# EAGLE library part XCV100_CB228 (library xilinx-xcv)
xcv100_cb228_1532 edit this description Auto generated by make-symbol-device-package-bsdl.ulp Rev. 26 Source: xcv100_cb228_1532.bsd
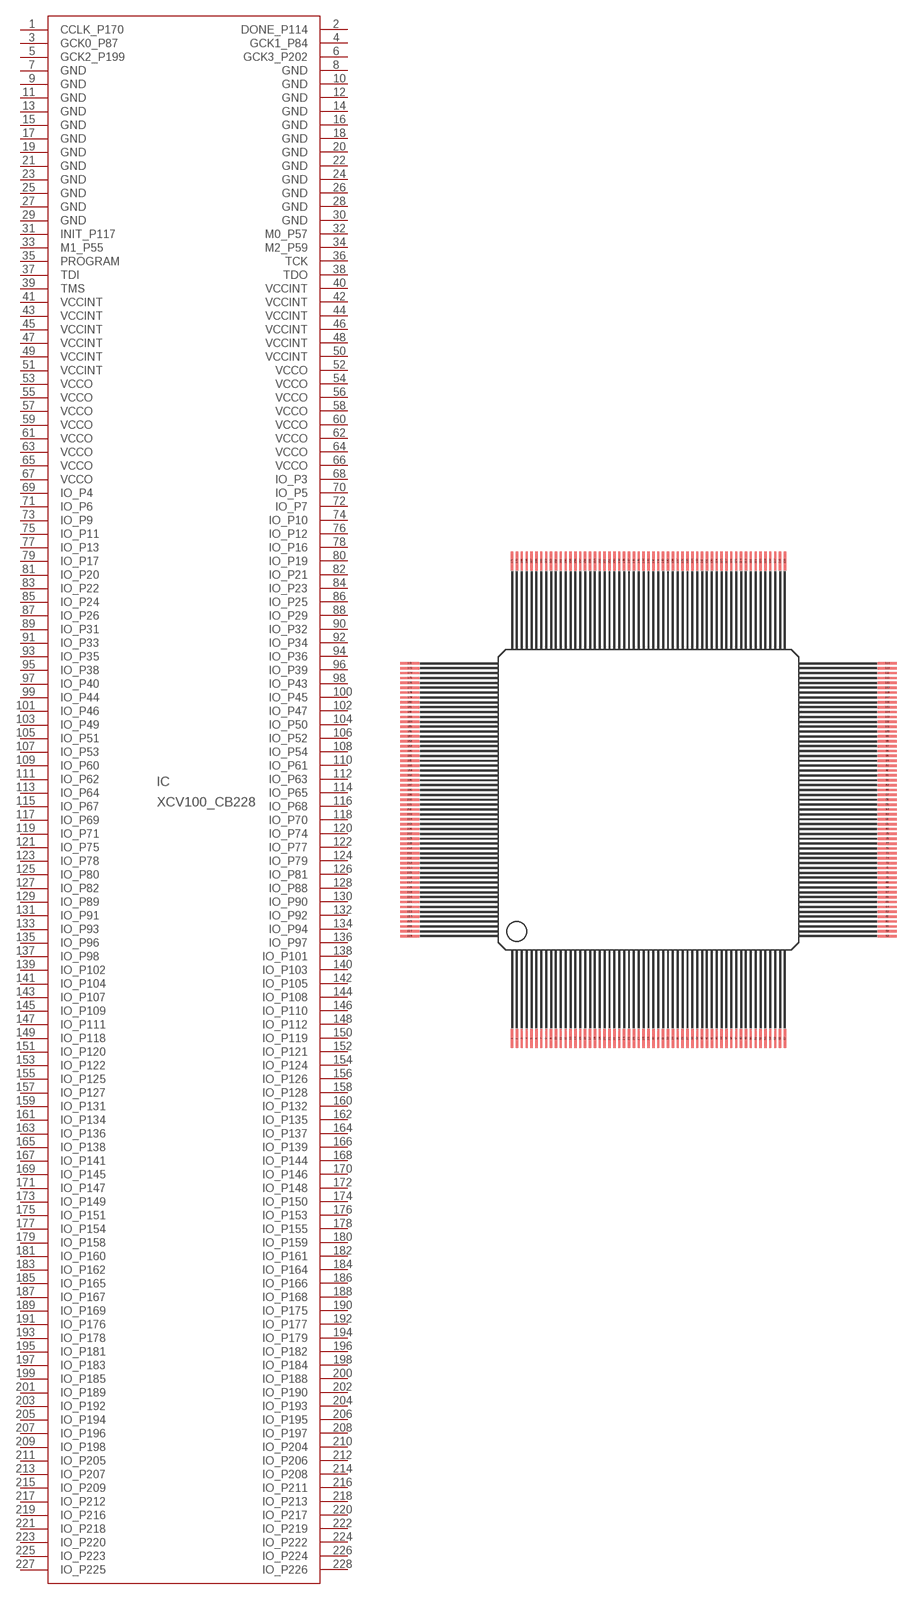
[diagram p1: symbol with the pads of CB228; footprint CB228]

Designator prefix IC

## XCV100_CB228 (OC_FARNELL: unknown; OC_NEWARK: unknown)  [CB228]
1  CCLK_P170
2  DONE_P114
3  GCK0_P87  in
4  GCK1_P84  in
5  GCK2_P199  in
6  GCK3_P202  in
7  GND  pwr
8  GND  pwr
9  GND  pwr
10  GND  pwr
11  GND  pwr
12  GND  pwr
13  GND  pwr
14  GND  pwr
15  GND  pwr
16  GND  pwr
17  GND  pwr
18  GND  pwr
19  GND  pwr
20  GND  pwr
21  GND  pwr
22  GND  pwr
23  GND  pwr
24  GND  pwr
25  GND  pwr
26  GND  pwr
27  GND  pwr
28  GND  pwr
29  GND  pwr
30  GND  pwr
31  INIT_P117
32  M0_P57  in
33  M1_P55  in
34  M2_P59  in
35  PROGRAM  in
36  TCK  in
37  TDI  in
38  TDO  out
39  TMS  in
40  VCCINT  pwr
41  VCCINT  pwr
42  VCCINT  pwr
43  VCCINT  pwr
44  VCCINT  pwr
45  VCCINT  pwr
46  VCCINT  pwr
47  VCCINT  pwr
48  VCCINT  pwr
49  VCCINT  pwr
50  VCCINT  pwr
51  VCCINT  pwr
52  VCCO  pwr
53  VCCO  pwr
54  VCCO  pwr
55  VCCO  pwr
56  VCCO  pwr
57  VCCO  pwr
58  VCCO  pwr
59  VCCO  pwr
60  VCCO  pwr
61  VCCO  pwr
62  VCCO  pwr
63  VCCO  pwr
64  VCCO  pwr
65  VCCO  pwr
66  VCCO  pwr
67  VCCO  pwr
68  IO_P3
69  IO_P4
70  IO_P5
71  IO_P6
72  IO_P7
73  IO_P9
74  IO_P10
75  IO_P11
76  IO_P12
77  IO_P13
78  IO_P16
79  IO_P17
80  IO_P19
81  IO_P20
82  IO_P21
83  IO_P22
84  IO_P23
85  IO_P24
86  IO_P25
87  IO_P26
88  IO_P29
89  IO_P31
90  IO_P32
91  IO_P33
92  IO_P34
93  IO_P35
94  IO_P36
95  IO_P38
96  IO_P39
97  IO_P40
98  IO_P43
99  IO_P44
100  IO_P45
101  IO_P46
102  IO_P47
103  IO_P49
104  IO_P50
105  IO_P51
106  IO_P52
107  IO_P53
108  IO_P54
109  IO_P60
110  IO_P61
111  IO_P62
112  IO_P63
113  IO_P64
114  IO_P65
115  IO_P67
116  IO_P68
117  IO_P69
118  IO_P70
119  IO_P71
120  IO_P74
121  IO_P75
122  IO_P77
123  IO_P78
124  IO_P79
125  IO_P80
126  IO_P81
127  IO_P82
128  IO_P88
129  IO_P89
130  IO_P90
131  IO_P91
132  IO_P92
133  IO_P93
134  IO_P94
135  IO_P96
136  IO_P97
137  IO_P98
138  IO_P101
139  IO_P102
140  IO_P103
141  IO_P104
142  IO_P105
143  IO_P107
144  IO_P108
145  IO_P109
146  IO_P110
147  IO_P111
148  IO_P112
149  IO_P118
150  IO_P119
151  IO_P120
152  IO_P121
153  IO_P122
154  IO_P124
155  IO_P125
156  IO_P126
157  IO_P127
158  IO_P128
159  IO_P131
160  IO_P132
161  IO_P134
162  IO_P135
163  IO_P136
164  IO_P137
165  IO_P138
166  IO_P139
167  IO_P141
168  IO_P144
169  IO_P145
170  IO_P146
171  IO_P147
172  IO_P148
173  IO_P149
174  IO_P150
175  IO_P151
176  IO_P153
177  IO_P154
178  IO_P155
179  IO_P158
180  IO_P159
181  IO_P160
182  IO_P161
183  IO_P162
184  IO_P164
185  IO_P165
186  IO_P166
187  IO_P167
188  IO_P168
189  IO_P169
190  IO_P175
191  IO_P176
192  IO_P177
193  IO_P178
194  IO_P179
195  IO_P181
196  IO_P182
197  IO_P183
198  IO_P184
199  IO_P185
200  IO_P188
201  IO_P189
202  IO_P190
203  IO_P192
204  IO_P193
205  IO_P194
206  IO_P195
207  IO_P196
208  IO_P197
209  IO_P198
210  IO_P204
211  IO_P205
212  IO_P206
213  IO_P207
214  IO_P208
215  IO_P209
216  IO_P211
217  IO_P212
218  IO_P213
219  IO_P216
220  IO_P217
221  IO_P218
222  IO_P219
223  IO_P220
224  IO_P222
225  IO_P223
226  IO_P224
227  IO_P225
228  IO_P226

## Footprint CB228 (pad centres in mm)
Ceramic Brazed CQFP (CB228) Package Source: cb228.pdf
smd 0.305 x 2.54: 1 -17.78,-31.115; 2 -17.145,-31.115; 3 -16.51,-31.115; 4 -15.875,-31.115; 5 -15.24,-31.115; 6 -14.605,-31.115; 7 -13.97,-31.115; 8 -13.335,-31.115; 9 -12.7,-31.115; 10 -12.065,-31.115; 11 -11.43,-31.115; 12 -10.795,-31.115; 13 -10.16,-31.115; 14 -9.525,-31.115; 15 -8.89,-31.115; 16 -8.255,-31.115; 17 -7.62,-31.115; 18 -6.985,-31.115; 19 -6.35,-31.115; 20 -5.715,-31.115; 21 -5.08,-31.115; 22 -4.445,-31.115; 23 -3.81,-31.115; 24 -3.175,-31.115; 25 -2.54,-31.115; 26 -1.905,-31.115; 27 -1.27,-31.115; 28 -0.635,-31.115; 29 0,-31.115; 30 0.635,-31.115; 31 1.27,-31.115; 32 1.905,-31.115; 33 2.54,-31.115; 34 3.175,-31.115; 35 3.81,-31.115; 36 4.445,-31.115; 37 5.08,-31.115; 38 5.715,-31.115; 39 6.35,-31.115; 40 6.985,-31.115; 41 7.62,-31.115; 42 8.255,-31.115; 43 8.89,-31.115; 44 9.525,-31.115; 45 10.16,-31.115; 46 10.795,-31.115; 47 11.43,-31.115; 48 12.065,-31.115; 49 12.7,-31.115; 50 13.335,-31.115; 51 13.97,-31.115; 52 14.605,-31.115; 53 15.24,-31.115; 54 15.875,-31.115; 55 16.51,-31.115; 56 17.145,-31.115; 57 17.78,-31.115; 115 17.78,31.115; 116 17.145,31.115; 117 16.51,31.115; 118 15.875,31.115; 119 15.24,31.115; 120 14.605,31.115; 121 13.97,31.115; 122 13.335,31.115; 123 12.7,31.115; 124 12.065,31.115; 125 11.43,31.115; 126 10.795,31.115; 127 10.16,31.115; 128 9.525,31.115; 129 8.89,31.115; 130 8.255,31.115; 131 7.62,31.115; 132 6.985,31.115; 133 6.35,31.115; 134 5.715,31.115; 135 5.08,31.115; 136 4.445,31.115; 137 3.81,31.115; 138 3.175,31.115; 139 2.54,31.115; 140 1.905,31.115; 141 1.27,31.115; 142 0.635,31.115; 143 0,31.115; 144 -0.635,31.115; 145 -1.27,31.115; 146 -1.905,31.115; 147 -2.54,31.115; 148 -3.175,31.115; 149 -3.81,31.115; 150 -4.445,31.115; 151 -5.08,31.115; 152 -5.715,31.115; 153 -6.35,31.115; 154 -6.985,31.115; 155 -7.62,31.115; 156 -8.255,31.115; 157 -8.89,31.115; 158 -9.525,31.115; 159 -10.16,31.115; 160 -10.795,31.115; 161 -11.43,31.115; 162 -12.065,31.115; 163 -12.7,31.115; 164 -13.335,31.115; 165 -13.97,31.115; 166 -14.605,31.115; 167 -15.24,31.115; 168 -15.875,31.115; 169 -16.51,31.115; 170 -17.145,31.115; 171 -17.78,31.115
smd 2.54 x 0.305: 58 31.115,-17.78; 59 31.115,-17.145; 60 31.115,-16.51; 61 31.115,-15.875; 62 31.115,-15.24; 63 31.115,-14.605; 64 31.115,-13.97; 65 31.115,-13.335; 66 31.115,-12.7; 67 31.115,-12.065; 68 31.115,-11.43; 69 31.115,-10.795; 70 31.115,-10.16; 71 31.115,-9.525; 72 31.115,-8.89; 73 31.115,-8.255; 74 31.115,-7.62; 75 31.115,-6.985; 76 31.115,-6.35; 77 31.115,-5.715; 78 31.115,-5.08; 79 31.115,-4.445; 80 31.115,-3.81; 81 31.115,-3.175; 82 31.115,-2.54; 83 31.115,-1.905; 84 31.115,-1.27; 85 31.115,-0.635; 86 31.115,0; 87 31.115,0.635; 88 31.115,1.27; 89 31.115,1.905; 90 31.115,2.54; 91 31.115,3.175; 92 31.115,3.81; 93 31.115,4.445; 94 31.115,5.08; 95 31.115,5.715; 96 31.115,6.35; 97 31.115,6.985; 98 31.115,7.62; 99 31.115,8.255; 100 31.115,8.89; 101 31.115,9.525; 102 31.115,10.16; 103 31.115,10.795; 104 31.115,11.43; 105 31.115,12.065; 106 31.115,12.7; 107 31.115,13.335; 108 31.115,13.97; 109 31.115,14.605; 110 31.115,15.24; 111 31.115,15.875; 112 31.115,16.51; 113 31.115,17.145; 114 31.115,17.78; 172 -31.115,17.78; 173 -31.115,17.145; 174 -31.115,16.51; 175 -31.115,15.875; 176 -31.115,15.24; 177 -31.115,14.605; 178 -31.115,13.97; 179 -31.115,13.335; 180 -31.115,12.7; 181 -31.115,12.065; 182 -31.115,11.43; 183 -31.115,10.795; 184 -31.115,10.16; 185 -31.115,9.525; 186 -31.115,8.89; 187 -31.115,8.255; 188 -31.115,7.62; 189 -31.115,6.985; 190 -31.115,6.35; 191 -31.115,5.715; 192 -31.115,5.08; 193 -31.115,4.445; 194 -31.115,3.81; 195 -31.115,3.175; 196 -31.115,2.54; 197 -31.115,1.905; 198 -31.115,1.27; 199 -31.115,0.635; 200 -31.115,0; 201 -31.115,-0.635; 202 -31.115,-1.27; 203 -31.115,-1.905; 204 -31.115,-2.54; 205 -31.115,-3.175; 206 -31.115,-3.81; 207 -31.115,-4.445; 208 -31.115,-5.08; 209 -31.115,-5.715; 210 -31.115,-6.35; 211 -31.115,-6.985; 212 -31.115,-7.62; 213 -31.115,-8.255; 214 -31.115,-8.89; 215 -31.115,-9.525; 216 -31.115,-10.16; 217 -31.115,-10.795; 218 -31.115,-11.43; 219 -31.115,-12.065; 220 -31.115,-12.7; 221 -31.115,-13.335; 222 -31.115,-13.97; 223 -31.115,-14.605; 224 -31.115,-15.24; 225 -31.115,-15.875; 226 -31.115,-16.51; 227 -31.115,-17.145; 228 -31.115,-17.78